# EAGLE library part PGA_SOCKET_84PIN (library stephen)
84-PGM10003-10 ARIES TECHNOLOGY
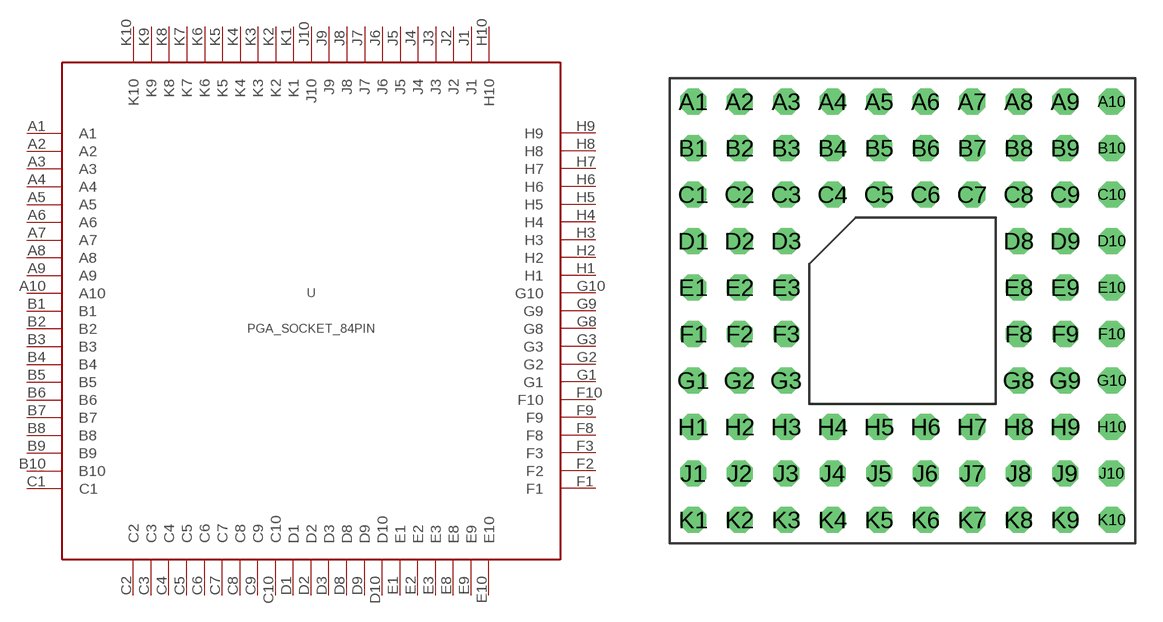
[diagram p0: symbol with the pads of PGA_SOCKET_84PIN; footprint PGA_SOCKET_84PIN]

Designator prefix -

## PGA_SOCKET_84PIN  [PGA_SOCKET_84PIN]
A1  A1
A2  A2
A3  A3
A4  A4
A5  A5
A6  A6
A7  A7
A8  A8
A9  A9
A10  A10
B1  B1
B2  B2
B3  B3
B4  B4
B5  B5
B6  B6
B7  B7
B8  B8
B9  B9
B10  B10
C1  C1
C2  C2
C3  C3
C4  C4
C5  C5
C6  C6
C7  C7
C8  C8
C9  C9
C10  C10
D1  D1
D2  D2
D3  D3
D8  D8
D9  D9
D10  D10
E1  E1
E2  E2
E3  E3
E8  E8
E9  E9
E10  E10
F1  F1
F2  F2
F3  F3
F8  F8
F9  F9
F10  F10
G1  G1
G2  G2
G3  G3
G8  G8
G9  G9
G10  G10
H1  H1
H2  H2
H3  H3
H4  H4
H5  H5
H6  H6
H7  H7
H8  H8
H9  H9
H10  H10
J1  J1
J2  J2
J3  J3
J4  J4
J5  J5
J6  J6
J7  J7
J8  J8
J9  J9
J10  J10
K1  K1
K2  K2
K3  K3
K4  K4
K5  K5
K6  K6
K7  K7
K8  K8
K9  K9
K10  K10

## Footprint PGA_SOCKET_84PIN (pad centres in mm)
drill 0.9 octagon: A1 -11.43,11.43; A2 -8.89,11.43; A3 -6.35,11.43; A4 -3.81,11.43; A5 -1.27,11.43; A6 1.27,11.43; A7 3.81,11.43; A8 6.35,11.43; A9 8.89,11.43; A10 11.43,11.43; B1 -11.43,8.89; B2 -8.89,8.89; B3 -6.35,8.89; B4 -3.81,8.89; B5 -1.27,8.89; B6 1.27,8.89; B7 3.81,8.89; B8 6.35,8.89; B9 8.89,8.89; B10 11.43,8.89; C1 -11.43,6.35; C2 -8.89,6.35; C3 -6.35,6.35; C4 -3.81,6.35; C5 -1.27,6.35; C6 1.27,6.35; C7 3.81,6.35; C8 6.35,6.35; C9 8.89,6.35; C10 11.43,6.35; D1 -11.43,3.81; D2 -8.89,3.81; D3 -6.35,3.81; D8 6.35,3.81; D9 8.89,3.81; D10 11.43,3.81; E1 -11.43,1.27; E2 -8.89,1.27; E3 -6.35,1.27; E8 6.35,1.27; E9 8.89,1.27; E10 11.43,1.27; F1 -11.43,-1.27; F2 -8.89,-1.27; F3 -6.35,-1.27; F8 6.35,-1.27; F9 8.89,-1.27; F10 11.43,-1.27; G1 -11.43,-3.81; G2 -8.89,-3.81; G3 -6.35,-3.81; G8 6.35,-3.81; G9 8.89,-3.81; G10 11.43,-3.81; H1 -11.43,-6.35; H2 -8.89,-6.35; H3 -6.35,-6.35; H4 -3.81,-6.35; H5 -1.27,-6.35; H6 1.27,-6.35; H7 3.81,-6.35; H8 6.35,-6.35; H9 8.89,-6.35; H10 11.43,-6.35; J1 -11.43,-8.89; J2 -8.89,-8.89; J3 -6.35,-8.89; J4 -3.81,-8.89; J5 -1.27,-8.89; J6 1.27,-8.89; J7 3.81,-8.89; J8 6.35,-8.89; J9 8.89,-8.89; J10 11.43,-8.89; K1 -11.43,-11.43; K2 -8.89,-11.43; K3 -6.35,-11.43; K4 -3.81,-11.43; K5 -1.27,-11.43; K6 1.27,-11.43; K7 3.81,-11.43; K8 6.35,-11.43; K9 8.89,-11.43; K10 11.43,-11.43